# Altium schematic symbol library EVE-GA1F1724B.Schlib: 1 symbol
Pins are listed as number, name and electrical type; pins without a type are passive.

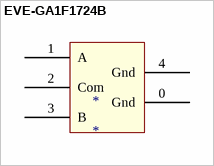
[diagram p0: symbol EVE-GA1F1724B]

## EVE-GA1F1724B
designator *
pins: 0 Gnd, 1 A, 2 Com, 3 B, 4 Gnd